# EAGLE library part IL311A (library op-amp)
Intergal clone of LM311 comparator.
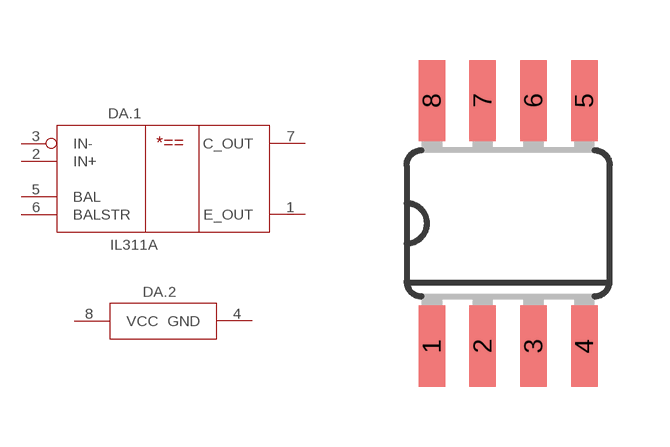
[diagram p2: symbol with the pads of SO08; footprint SO08]

Designator prefix DA; gates .1=LM311 .2=PWRN

## IL311AD  [SO08]
1  .1:E_OUT
2  .1:IN+  in
3  .1:IN-  in
4  .2:GND  pwr
5  .1:BAL
6  .1:BALSTR
7  .1:C_OUT  out
8  .2:VCC  pwr

## Footprint SO08 (pad centres in mm)
Small Outline package 150 mil
smd 0.66 x 2.032: 1 -1.905,-3.073; 2 -0.635,-3.073; 3 0.635,-3.073; 4 1.905,-3.073; 5 1.905,3.073; 6 0.635,3.073; 7 -0.635,3.073; 8 -1.905,3.073